# Altium footprint library indication.PcbLib: 19 footprints (part 2 of 2)
Each footprint in its own frame and in the unit in brackets; x right, y up, seen from the top. Pads: shape width x height; smd on the part's side, far side on the other; paste and mask are expansions set on the pad; w line width, h text height; cw(c..) or ccw(c..) is an arc to the next point about the centre after c.
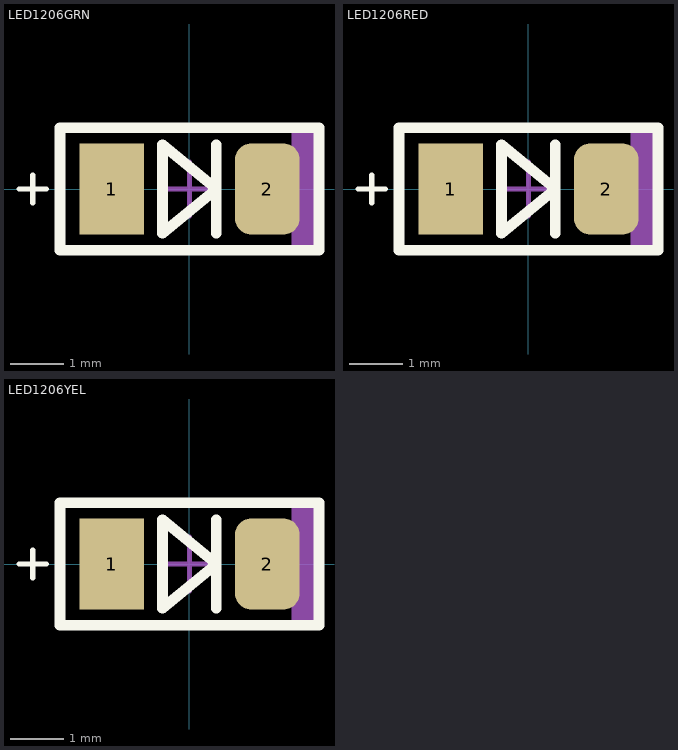
[diagram p1: the footprints below, top view; thin cyan lines are the x and y axes]

## LED1206GRN [mm] "Chip Resistor, 2-Leads, Body 3,13x1,55mm, IPC Medium Density"
height 0.7
pads (2):
  rect 1.2x1.7 smd: 1(-1.45,0)
  rrect50% 1.2x1.7 smd: 2(1.45,0)
Top Overlay:
  lines w0.1: -3.175,0 -2.667,0 ; -2.921,-0.254 -2.921,0.254
  lines w0.2: 0.5,-0.825 0.5,0.825 ; -2.413,-1.143 -2.413,1.143 2.413,1.143 2.413,-1.143 -2.413,-1.143 ; -0.5,-0.825 -0.5,0.825 0.5,0 -0.5,-0.825
Mechanical 13:
  region: 2.413,1.143 1.905,1.143 1.905,-1.143 2.413,-1.143
  lines w0.1: -2.413,-1.143 -2.413,1.143 2.413,1.143 2.413,-1.143 -2.413,-1.143
  text ".Designator" at -2.06,-0.47 h1
Mechanical 15:
  lines w0.05: -2.413,-1.143 2.413,-1.143 2.413,1.143 -2.413,1.143 -2.413,-1.143
  lines w0.1: -0.5,0 0.5,0 ; 0,-0.5 0,0.5
3D body: height 0.7, standoff 0, extent -1.125,-0.825 1.125,0.825
3D body: height 0.7, standoff 0, extent -1.625,-0.825 -1.125,0.825
3D body: height 0.7, standoff 0, extent 1.125,-0.825 1.625,0.825

## LED1206RED [mm] "Chip Resistor, 2-Leads, Body 3,13x1,55mm, IPC Medium Density"
height 0.7
pads (2):
  rect 1.2x1.7 smd: 1(-1.45,0)
  rrect50% 1.2x1.7 smd: 2(1.45,0)
Top Overlay:
  lines w0.1: -3.175,0 -2.667,0 ; -2.921,-0.254 -2.921,0.254
  lines w0.2: 0.5,-0.825 0.5,0.825 ; -2.413,-1.143 2.413,-1.143 2.413,1.143 -2.413,1.143 -2.413,-1.143 ; -0.5,-0.825 0.5,0 -0.5,0.825 -0.5,-0.825
Mechanical 13:
  region: 2.413,1.143 1.905,1.143 1.905,-1.143 2.413,-1.143
  lines w0.1: -2.413,-1.143 2.413,-1.143 2.413,1.143 -2.413,1.143 -2.413,-1.143
  text ".Designator" at -2.06,-0.47 h1
Mechanical 15:
  lines w0.05: -2.413,-1.143 -2.413,1.143 2.413,1.143 2.413,-1.143 -2.413,-1.143
  lines w0.1: -0.5,0 0.5,0 ; 0,-0.5 0,0.5
3D body: height 0.7, standoff 0, extent 1.125,-0.825 1.625,0.825
3D body: height 0.7, standoff 0, extent -1.625,-0.825 -1.125,0.825
3D body: height 0.7, standoff 0, extent -1.125,-0.825 1.125,0.825

## LED1206YEL [mm] "Chip Resistor, 2-Leads, Body 3,13x1,55mm, IPC Medium Density"
height 0.7
pads (2):
  rect 1.2x1.7 smd: 1(-1.45,0)
  rrect50% 1.2x1.7 smd: 2(1.45,0)
Top Overlay:
  lines w0.1: -3.175,0 -2.667,0 ; -2.921,-0.254 -2.921,0.254
  lines w0.2: 0.5,-0.825 0.5,0.825 ; -2.413,-1.143 2.413,-1.143 2.413,1.143 -2.413,1.143 -2.413,-1.143 ; -0.5,-0.825 0.5,0 -0.5,0.825 -0.5,-0.825
Mechanical 13:
  region: 2.413,1.143 1.905,1.143 1.905,-1.143 2.413,-1.143
  lines w0.1: -2.413,-1.143 2.413,-1.143 2.413,1.143 -2.413,1.143 -2.413,-1.143
  text ".Designator" at -2.06,-0.47 h1
Mechanical 15:
  lines w0.05: -2.413,-1.143 -2.413,1.143 2.413,1.143 2.413,-1.143 -2.413,-1.143
  lines w0.1: -0.5,0 0.5,0 ; 0,-0.5 0,0.5
3D body: height 0.7, standoff 0, extent 1.125,-0.825 1.625,0.825
3D body: height 0.7, standoff 0, extent -1.625,-0.825 -1.125,0.825
3D body: height 0.7, standoff 0, extent -1.125,-0.825 1.125,0.825